# EAGLE library part PIC16F676 (library Recon)
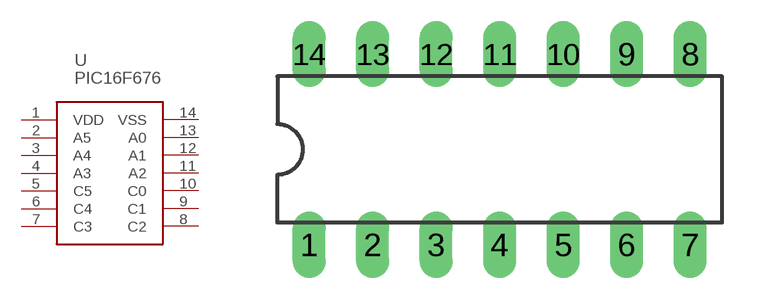
[diagram p5: symbol with the pads of DIL14; footprint DIL14]

Designator prefix -

## PIC16F676  [DIL14]
1  VDD  pwr
2  A5  pwr
3  A4  pwr
4  A3  pwr
5  C5  pwr
6  C4  pwr
7  C3  pwr
8  C2  pwr
9  C1  pwr
10  C0  pwr
11  A2  pwr
12  A1  pwr
13  A0  pwr
14  VSS  pwr

## Footprint DIL14 (pad centres in mm)
Dual In Line Package
drill 0.813 long: 1 -7.62,-3.81; 2 -5.08,-3.81; 3 -2.54,-3.81; 4 0,-3.81; 5 2.54,-3.81; 6 5.08,-3.81; 7 7.62,-3.81; 8 7.62,3.81; 9 5.08,3.81; 10 2.54,3.81; 11 0,3.81; 12 -2.54,3.81; 13 -5.08,3.81; 14 -7.62,3.81